# Altium footprint library PCB - LEADLESS - BGA - TI DSBGA-34 YFV.PcbLib: 1 footprints
Each footprint in its own frame and in the unit in brackets; x right, y up, seen from the top. Pads: shape width x height; smd on the part's side, far side on the other; paste and mask are expansions set on the pad; w line width, h text height; cw(c..) or ccw(c..) is an arc to the next point about the centre after c.
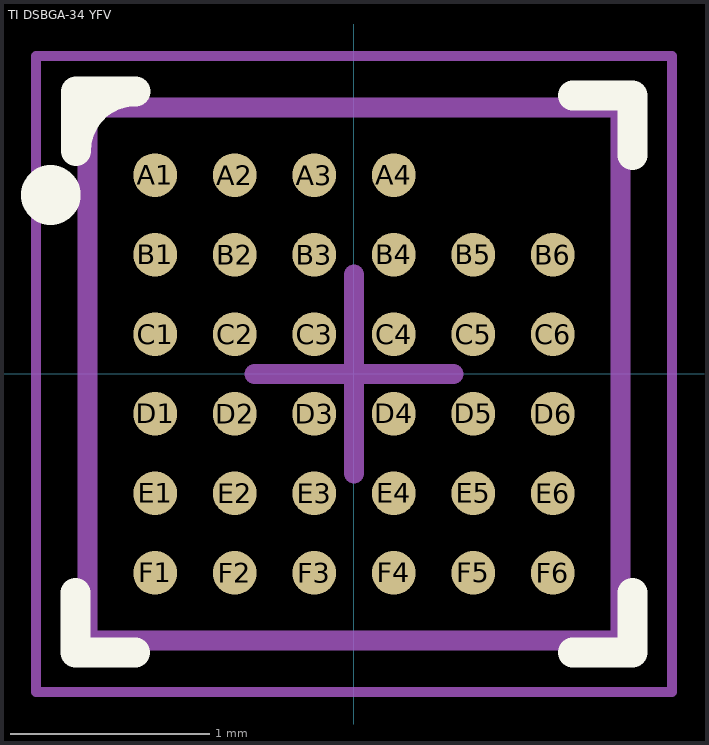
[diagram p0: the footprint, top view; thin cyan lines are the x and y axes]

## TI DSBGA-34 YFV [mm] "BGA, 34-Leads, Body 2.68x2.68mmx0.57mm, Pitch 0.40mm"
height 0.58
pads (34):
  round 0.22 smd: A1(-1,1) A2(-0.6,1) A3(-0.2,1) A4(0.2,1) B1(-1,0.6) B2(-0.6,0.6) B3(-0.2,0.6) B4(0.2,0.6) B5(0.6,0.6) B6(1,0.6) C1(-1,0.2) C2(-0.6,0.2) C3(-0.2,0.2) C4(0.2,0.2) C5(0.6,0.2) C6(1,0.2) D1(-1,-0.2) D2(-0.6,-0.2) D3(-0.2,-0.2) D4(0.2,-0.2) D5(0.6,-0.2) D6(1,-0.2) E1(-1,-0.6) E2(-0.6,-0.6) E3(-0.2,-0.6) E4(0.2,-0.6) E5(0.6,-0.6) E6(1,-0.6) F1(-1,-1) F2(-0.6,-1) F3(-0.2,-1) F4(0.2,-1) F5(0.6,-1) F6(1,-1)
Top Overlay:
  circle w0.25: c-1.525,0.9 r0.025
  lines w0.15: -1.4,-1.1 -1.4,-1.4 -1.1,-1.4 ; 1.1,-1.4 1.4,-1.4 1.4,-1.1 ; 1.1,1.4 1.4,1.4 1.4,1.1 ; -1.398,1.121 cw(c-1.098,1.121) -1.098,1.421 -1.398,1.421 -1.398,1.121
Mechanical 13:
  lines w0.1: -1.34,-1.34 -1.34,1.34 1.34,1.34 1.34,-1.34 -1.34,-1.34
Mechanical 15 (Mech15):
  lines w0.05: -1.6,-1.6 -1.6,1.6 1.6,1.6 1.6,-1.6 -1.6,-1.6
  lines w0.1: -0.5,0 0.5,0 ; 0,-0.5 0,0.5
3D body "TI - DSBGA YFV v1.step": height 0.58, standoff 0, extent -1.342,-1.342 1.342,1.342